# EAGLE library part TXS0104E (library work)
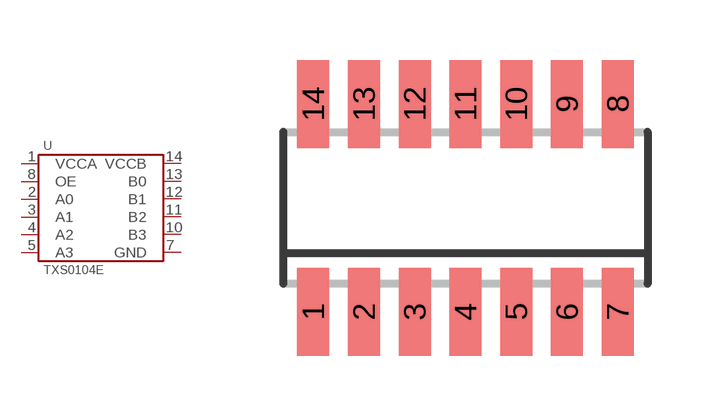
[diagram p74: symbol with the pads of SOIC14; footprint SOIC14]

Designator prefix U

## TXS0104E  [SOIC14]
1  VCCA
2  A0
3  A1
4  A2
5  A3
7  GND
8  OE
10  B3
11  B2
12  B1
13  B0
14  VCCB

## Footprint SOIC14 (pad centres in mm)
smd 0.8 x 2.2: 1 -3.81,-2.6; 2 -2.54,-2.6; 3 -1.27,-2.6; 4 0,-2.6; 5 1.27,-2.6; 6 2.54,-2.6; 7 3.81,-2.6; 8 3.81,2.6; 9 2.54,2.6; 10 1.27,2.6; 11 0,2.6; 12 -1.27,2.6; 13 -2.54,2.6; 14 -3.81,2.6